# Altium schematic symbol library SemiConductor.SchLib: 127 symbols (part 2 of 2)
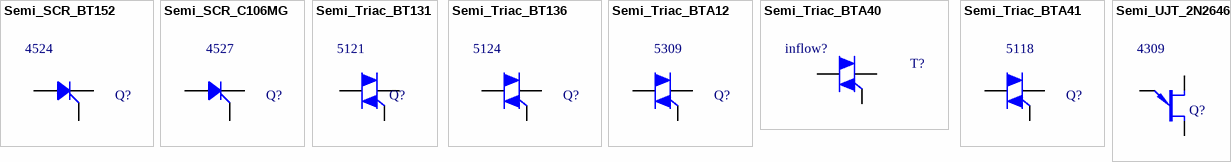
[diagram p4: symbols Semi_SCR_BT152 to Semi_UJT_2N2646]

## Semi_Triac_BT136
designator Q?, comment Inflow: 5124  (hidden comment: BT136)
Triacs; Rating: Rating?; Type: Type?; Validation: NT; Value: BT136; Package: Package?
footprint TO-220 AB (Epoxy meets UL94, V0-Design:Abbas Basereh)
footprint TO-220 AB S (Epoxy meets UL94, V0-Design:Abbas Basereh)
footprint TO-220 AB WITH HEAT SINK (Epoxy meets UL94, V0-Design:Abbas Basereh)
footprint TO-220 AB WITH HEAT SINK ASM (-Design:Abbas Basereh)
footprint TO-220 AB with heatsink ya25 (Epoxy meets UL94, V0-Design:Abbas Basereh)
pins: 1 T1, 2 T2, 3 G

## Semi_Triac_BTA12
designator Q?, comment Inflow: 5309  (hidden comment: BTA12)
Triacs; Rating: Rating?; Type: Type?; Validation: NT; Value: BTA12; Package: Package?
footprint TO-220 AB (Epoxy meets UL94, V0-Design:Abbas Basereh)
footprint TO-220 AB S (Epoxy meets UL94, V0-Design:Abbas Basereh)
footprint TO-220 AB WITH HEAT SINK (Epoxy meets UL94, V0-Design:Abbas Basereh)
footprint TO-220 AB WITH HEAT SINK ASM (-Design:Abbas Basereh)
footprint TO-220 AB with heatsink ya25 (Epoxy meets UL94, V0-Design:Abbas Basereh)
pins: 1 T1, 2 T2, 3 G

## Semi_Triac_BTA40
designator T?, comment Inflow: inflow?  (hidden comment: BTA40-700B)
Triac 40 Amp 700 Volt; Rating: Rating?; Type: Type?; Validation: NT; Value: BTA40-700B; Package: Package?
footprint RD-91
pins: 1 T1, 2 T2, 3 G

## Semi_Triac_BTA41
designator Q?, comment Inflow: 5118  (hidden comment: BTA41)
Triacs; Rating: Rating?; Type: Type?; Validation: NT; Value: BTA41; Package: Package?
footprint TOP-3
pins: 1 T1, 2 T2, 3 G

## Semi_UJT_2N2646
designator Q?, comment Inflow: 4309  (hidden comment: UJT)
N-Type General purpose, pulse, timing, sense and trigger applications; Rating: Rating?; Type: Type?; Validation: NT; Value: UJT; Package: Package?
footprint TO-18 (Can; 3 Leads; Pin Circle Dia. 2.54 mm; Lead Dia. 0.48 mm (max))
pins: 1 B2, 2 E, 3 B1